# Altium footprint library Coffee Machine.PcbLib: 27 footprints (part 1 of 2)
Each footprint in its own frame and in the unit in brackets; x right, y up, seen from the top. Pads: shape width x height; smd on the part's side, far side on the other; paste and mask are expansions set on the pad; w line width, h text height; cw(c..) or ccw(c..) is an arc to the next point about the centre after c.
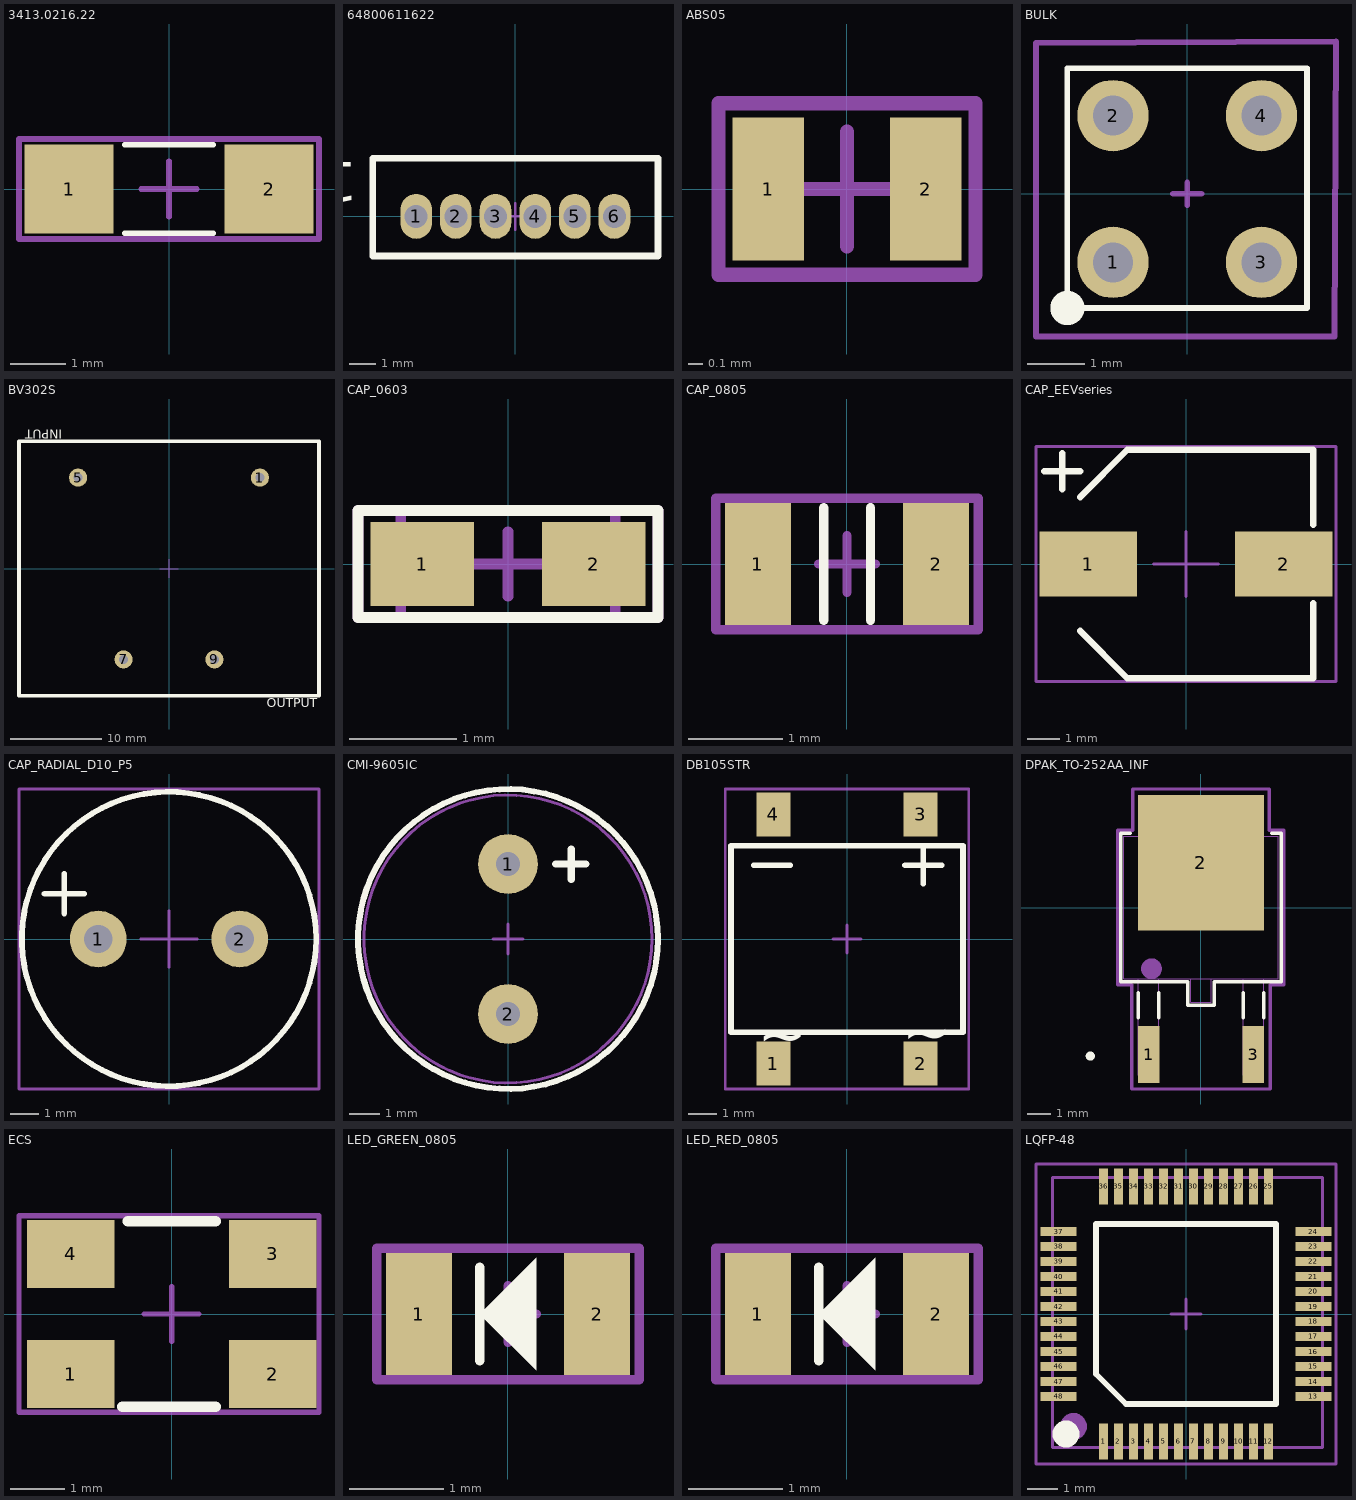
[diagram p0: the footprints below, top view; thin cyan lines are the x and y axes]

## 3413.0216.22 [mm]
pads (2):
  rect 1.6x1.6 smd mask+0.05: 1(-1.8,0) 2(1.8,0)
Top Overlay:
  lines w0.1: -0.8,-0.8 0.8,-0.8 ; -0.8,0.8 0.8,0.8
Top Component Center:
  lines w0.1: -0.5,0 0.5,0 ; 0,-0.5 0,0.5 ; -2.7,-0.9 2.7,-0.9 2.7,0.9 -1.3,0.9 -2.7,0.9 -2.7,-0.9
Top Designator:
  lines w0.1: -2.7,-0.9 2.7,-0.9 2.7,0.9 -1.3,0.9 -2.7,0.9 -2.7,-0.9
  text ".Designator" at -2,-0.467 h1
3D body "e_0100.3479_003.step": height 0.64, standoff 0, extent -1.612,-0.8 1.612,0.8

## 64800611622 [mm]
pads (6):
  oval 1.2x1.7 hole 0.87 mask+0.05: 1(-3.75,0) 2(-2.25,0) 3(-0.75,0) 4(0.75,0) 5(2.25,0) 6(3.75,0)
Top Overlay:
  lines w0.25: -5.4,-1.5 -5.4,2.2 5.4,2.2 5.4,-1.5 -5.4,-1.5
  text "1" at -5.954,2.046 h1.52
Top Component Center:
  lines w0.1: -0.5,0 0.5,0 ; 0,-0.5 0,0.5 ; -5.4,-1.5 5.4,-1.5 5.4,2.2 -5.4,2.2 -5.4,-1.5
Top Designator:
  lines w0.1: -5.4,-1.5 -5.4,2.2 5.4,2.2 5.4,-1.5 -5.4,-1.5
  text "'.Designator'" at -4.046,-0.238 h1.52
3D body "64800611622 (rev1).stp": height 4.75, standoff -2.45, extent -5.25,-1.4 5.25,2.1

## ABS05 [mm]
pads (2):
  rect 0.5x1 smd mask+0.05: 1(-0.55,0) 2(0.55,0)
Top Component Center:
  lines w0.1: -0.4,0 0.4,0 ; 0,-0.4 0,0.4 ; -0.9,-0.6 0.9,-0.6 0.9,0.6 -0.9,0.6 -0.9,-0.6
Top Designator:
  lines w0.1: -0.9,-0.6 0.9,-0.6 0.9,0.6 -0.9,0.6 -0.9,-0.6
  text "'.Designator'" at -1,-0.367 h0.7
3D body "ABS05.STEP": height 0.5, standoff 0, extent -0.8,-0.5 0.8,0.5

## BULK [mm]
pads (4):
  round 1.25 hole 0.7: 1(-1.3,-1.2) 2(-1.3,1.37) 3(1.3,-1.2) 4(1.3,1.37)
Top Overlay:
  circle w0.5: c-2.1,-2 r0.05
  lines w0.1: -2.1,-2 -2.1,2.2 2.1,2.2 2.1,-2 -2.1,-2
Top Component Center:
  lines w0.1: -0.25,0 0.25,0 ; 0,-0.2 0,0.2 ; -2.65,-2.5 2.581,-2.5 2.607,2.669 -2.65,2.643 -2.65,-2.5
Top Designator:
  lines w0.1: -2.65,-2.5 2.581,-2.5 2.607,2.669 -2.65,2.643 -2.65,-2.5
  text ".Designator" at -1.95,-0.55 h0.6
3D body "PH2-04-UA.STEP": height 8.45, standoff -3.1, extent -2.57,-2.43 2.51,2.57

## BV302S [mm]
pads (4):
  round 2 hole 1 mask+0.05: 1(10,10) 5(-10,10) 7(-5,-10) 9(5,-10)
Top Overlay:
  lines w0.4: -16.5,-14 -16.5,14 16.5,14 16.5,-14 -16.5,-14
  text "OUTPUT" at 10.754,-15.246 h1
  text "INPUT" at -11.754,15.246 h1
Top Component Center:
  lines w0.1: -1,0 1,0 ; 0,-1 0,1 ; -16.5,-14 16.5,-14 16.5,14 -16.5,14 -16.5,-14
Top Designator:
  lines w0.1: -16.5,-14 -16.5,14 16.5,14 16.5,-14 -16.5,-14
  text "'.Designator'" at -7.246,-0.238 h1.52
3D body "User Library-Hahn BV EI 302 2902.step": height 21.8, standoff -4.5, extent -16.25,-13.75 16.25,13.75

## CAP_0603 [mil]
pads (2):
  rect 38x31 smd mask+1.97: 1(-31.5,0) 2(31.5,0)
Top Overlay:
  lines w3.94: -55.12,-19.68 -55.12,19.68 55.12,19.68 55.12,-19.68 -55.12,-19.68
Top 3D Body:
  lines w3.94: -39.37,-19.68 39.37,-19.68 39.37,19.68 -39.37,19.68 -39.37,-19.68
Top Component Center:
  lines w3.94: -11.81,0 11.81,0 ; 0,-11.81 0,11.81 ; -55.12,-19.68 -55.12,19.68 55.12,19.68 55.12,-19.68 -55.12,-19.68
Top Designator:
  lines w3.94: -55.12,-19.68 -55.12,19.68 55.12,19.68 55.12,-19.68 -55.12,-19.68
  text ".Designator" at -39.37,-9.19 h19.68
3D body "CAPC0603.STEP": height 31.5, standoff 0, extent -41.35,-22.21 41.36,18.29

## CAP_0805 [mm]
pads (2):
  rect 0.7x1.3 smd mask+0.05: 1(-0.95,0) 2(0.95,0)
Top Overlay:
  lines w0.1: -0.25,-0.6 -0.25,0.6 ; 0.25,-0.6 0.25,0.6
Top Component Center:
  lines w0.1: -0.3,0 0.3,0 ; 0,-0.3 0,0.3 ; -1.4,-0.7 -1.4,0.7 1.4,0.7 1.4,-0.7 -1.4,-0.7
Top Designator:
  lines w0.1: -1.4,-0.7 -1.4,0.7 1.4,0.7 1.4,-0.7 -1.4,-0.7
  text "'.Designator'" at -1.25,-0.317 h0.7
3D body "CAPC0805.STEP": height 0.9, standoff 0, extent -1.301,-0.678 1.301,0.678

## CAP_EEVseries [mm]
pads (2):
  rect 3x2 smd mask+0.05: 1(-3,0) 2(3,0)
Top Overlay:
  lines w0.2: -4.35,2.85 -3.25,2.85 ; -3.8,2.3 -3.8,3.4 ; -3.25,-2.05 -1.8,-3.5 -1.5,-3.5 3.9,-3.5 3.9,-1.2 ; -3.25,2.05 -1.8,3.5 -1.5,3.5 3.9,3.5 3.9,1.2
Top Component Center:
  lines w0.1: -1,0 1,0 ; 0,-1 0,1 ; -4.6,-3.6 4.6,-3.6 4.6,3.6 -4.6,3.6 -4.6,-3.6
Top Designator:
  lines w0.1: -4.6,-3.6 4.6,-3.6 4.6,3.6 -4.6,3.6 -4.6,-3.6
  text "'.Designator'" at -2.846,-0.638 h1.52
3D body "EEV686M035A9HAA (1).step": height 8.01, standoff 0, extent -3.8,-3.4 3.8,3.4

## CAP_RADIAL_D10_P5 [mm]
pads (2):
  round 2 hole 1 mask+0.05: 1(-2.5,0) 2(2.5,0)
Top Overlay:
  circle w0.2: c0,0 r5.2
  lines w0.2: -4.4,1.6 -3,1.6 ; -3.7,0.9 -3.7,2.3
Top Component Center:
  lines w0.1: -1,0 1,0 ; 0,-1 0,1 ; -5.3,-5.3 -5.3,5.3 5.3,5.3 5.3,-5.3 -5.3,-5.3
Top Designator:
  lines w0.1: -5.3,-5.3 5.3,-5.3 5.3,5.3 -5.3,5.3 -5.3,-5.3
  text "'.Designator'" at -3.446,-0.938 h1.52
3D body "ESH477M050AH4AA (2).step": height 22.2, standoff -19.8, extent -5.25,-5.25 5.25,5.25

## CMI-9605IC [mm]
pads (2):
  round 2 hole 0.8 mask+0.05: 1(0,2.5) 2(0,-2.5)
Top Overlay:
  circle w0.2: c0,0 r5
  lines w0.25: 1.6,2.5 2.6,2.5 ; 2.1,2 2.1,3
Top Component Center:
  circle w0.1: c0,0 r4.8
  lines w0.1: -0.5,0 0.5,0 ; 0,-0.5 0,0.5
Top Designator:
  circle w0.1: c0,0 r4.8
  text ".Designator" at -2.246,-0.438 h1.52
3D body: height 5.1, standoff 0.1, extent -4.8,-4.797 4.8,4.797
3D body: height 0.15, standoff -5.35, extent -0.297,2.201 0.3,2.8
3D body: height 1.65, standoff -3.85, extent -0.3,-2.8 0.297,-2.201
3D body: height 5.2, standoff 5.15, extent -4.3,-4.297 4.3,4.297
3D body: height 5.2, standoff 5.15, extent -2,1.8 2,5.8

## DB105STR [mm]
pads (4):
  rect 1.2x1.55 smd mask+0.05: 1(-2.605,-4.4) 2(2.605,-4.4) 3(2.605,4.4) 4(-2.605,4.4)
Top Overlay:
  lines w0.2: -3.3,2.6 -2,2.6 ; 2.05,2.6 3.35,2.6 ; 2.7,1.95 2.7,3.25 ; -4.1,-3.3 -4.1,3.3 4.1,3.3 4.1,-3.3 -4.1,-3.3
  text "~" at 1.954,-4.016 h1.52
  text "~" at -3.146,-4.116 h1.52
Top Component Center:
  lines w0.1: -0.5,0 0.5,0 ; 0,-0.5 0,0.5 ; -4.3,-5.3 -4.3,5.3 4.3,5.3 4.3,-5.3 -4.3,-5.3
Top Designator:
  lines w0.1: -4.3,-5.3 -4.3,5.3 4.3,5.3 4.3,-5.3 -4.3,-5.3
  text ".Designator" at -3,-0.067 h1
3D body "User Library-DB107S  DB-S (1).step": height 2.66, standoff 0, extent -4.16,-5.2 4.16,5.2

## DPAK_TO-252AA_INF [mil]
pads (3):
  rect 37x98 smd paste+0 mask+0: 1(-90,-252.5) 3(90,-252.5)
  rect 217x233 smd paste+0 mask+0: 2(0,77)
Top Overlay:
  circle w7.87: c-190,-255 r3.94
  lines w6: -121.6,127.5 -137.5,127.5 -137.5,-127.5 -22.5,-127.5 -22.5,-167.5 22.5,-167.5 22.5,-127.5 137.5,-127.5 137.5,127.5 121.6,127.5 ; -107.5,-189.5 -107.5,-146.5 ; -72.5,-189.5 -72.5,-146.5 ; 72.5,-189.5 72.5,-146.5 ; 107.5,-189.5 107.5,-146.5
Top 3D Body:
  circle w19.68: c-85,-105 r7.87
Mechanical 13:
  lines w1: -132.5,-122.5 132.5,-122.5 132.5,122.5 -132.5,122.5 -132.5,-122.5 ; -107.5,-287.5 -107.5,-122.5 -72.5,-122.5 -72.5,-287.5 -107.5,-287.5 ; -17.5,-162.5 -17.5,-122.5 17.5,-122.5 17.5,-162.5 -17.5,-162.5 ; 72.5,-287.5 72.5,-122.5 107.5,-122.5 107.5,-287.5 72.5,-287.5
Mechanical 15:
  lines w6: -142.5,-132.5 -142.5,132.5 -117.5,132.5 -117.5,203.5 117.5,203.5 117.5,132.5 142.5,132.5 142.5,-132.5 118.5,-132.5 118.5,-311.5 -118.5,-311.5 -118.5,-132.5 -142.5,-132.5
3D body "DPAK_TO-252AA_INF.step": height 94.09, standoff -2.01, extent -132.52,-287.52 132.52,172.52

## ECS [mm]
pads (4):
  rect 1.6x1.25 smd mask+0.05: 1(-1.85,-1.1) 2(1.85,-1.1) 3(1.85,1.1) 4(-1.85,1.1)
Top Overlay:
  lines w0.2: -0.9,-1.7 0.8,-1.7 ; -0.8,1.7 0.8,1.7
Top Component Center:
  lines w0.1: -0.5,0 0.5,0 ; 0,-0.5 0,0.5 ; -2.8,-1.8 2.7,-1.8 2.7,1.8 -2.8,1.8 -2.8,-1.8
Top Designator:
  lines w0.1: -2.8,-1.8 2.7,-1.8 2.7,1.8 -2.8,1.8 -2.8,-1.8
  text "'.Designator'" at -2.246,-0.638 h1.52
3D body "ECS-160-20-30B-TR.STEP": height 0.85, standoff 0, extent -2.5,-1.6 2.5,1.6

## LED_GREEN_0805 [mm]
pads (2):
  rect 0.7x1.3 smd mask+0.05: 1(-0.95,0) 2(0.95,0)
Top Overlay:
  region: -0.3,0 0.3,0.6 0.3,-0.6
  lines w0.1: -0.3,-0.5 -0.3,0.5
Top Component Center:
  lines w0.1: -0.3,0 0.3,0 ; 0,-0.3 0,0.3 ; -1.4,-0.7 1.4,-0.7 1.4,0.7 -1.4,0.7 -1.4,-0.7
Top Designator:
  lines w0.1: -1.4,-0.7 1.4,-0.7 1.4,0.7 -1.4,0.7 -1.4,-0.7
  text "'.Designator'" at -1.25,-0.317 h0.7
3D body "SMD_0805LED_GREEN.STEP": height 1.1, standoff 0, extent -1.01,-0.625 1.01,0.625

## LED_RED_0805 [mm]
pads (2):
  rect 0.7x1.3 smd mask+0.05: 1(-0.95,0) 2(0.95,0)
Top Overlay:
  region: -0.3,0 0.3,0.6 0.3,-0.6
  lines w0.1: -0.3,-0.5 -0.3,0.5
Top Component Center:
  lines w0.1: -0.3,0 0.3,0 ; 0,-0.3 0,0.3 ; -1.4,-0.7 -1.4,0.7 1.4,0.7 1.4,-0.7 -1.4,-0.7
Top Designator:
  lines w0.1: -1.4,-0.7 -1.4,0.7 1.4,0.7 1.4,-0.7 -1.4,-0.7
  text "'.Designator'" at -1.25,-0.317 h0.7
3D body "SMD_0805LED_RED.STEP": height 1.1, standoff 0, extent -1.01,-0.625 1.01,0.625

## LQFP-48 [mm] "7mm x 7mm"
pads (48):
  rect 0.3x1.2 smd mask+0.05: 1(-2.75,-4.25) 2(-2.25,-4.25) 3(-1.75,-4.25) 4(-1.25,-4.25) 5(-0.75,-4.25) 6(-0.25,-4.25) 7(0.25,-4.25) 8(0.75,-4.25) 9(1.25,-4.25) 10(1.75,-4.25) 11(2.25,-4.25) 12(2.75,-4.25) 25(2.75,4.25) 26(2.25,4.25) 27(1.75,4.25) 28(1.25,4.25) 29(0.75,4.25) 30(0.25,4.25) 31(-0.25,4.25) 32(-0.75,4.25) 33(-1.25,4.25) 34(-1.75,4.25) 35(-2.25,4.25) 36(-2.75,4.25)
  rect 1.2x0.3 smd mask+0.05: 13(4.25,-2.75) 14(4.25,-2.25) 15(4.25,-1.75) 16(4.25,-1.25) 17(4.25,-0.75) 18(4.25,-0.25) 19(4.25,0.25) 20(4.25,0.75) 21(4.25,1.25) 22(4.25,1.75) 23(4.25,2.25) 24(4.25,2.75) 37(-4.25,2.75) 38(-4.25,2.25) 39(-4.25,1.75) 40(-4.25,1.25) 41(-4.25,0.75) 42(-4.25,0.25) 43(-4.25,-0.25) 44(-4.25,-0.75) 45(-4.25,-1.25) 46(-4.25,-1.75) 47(-4.25,-2.25) 48(-4.25,-2.75)
Top Overlay:
  circle w0.5: c-4,-4 r0.2
  lines w0.2: -3,-2 -2,-3 3,-3 3,3 -3,3 -3,-2
Top 3D Body:
  circle w0.5: c-3.75,-3.75 r0.2
  lines w0.1: -4.454,-4.452 4.548,-4.452 4.548,4.551 -4.454,4.551 -4.454,-4.452
Top Component Center:
  lines w0.1: -0.5,0 0.5,0 ; 0,-0.5 0,0.5 ; -5,-5 -5,5 5,5 5,-5 -5,-5
Top Designator:
  lines w0.1: -5,-5 5,-5 5,5 -5,5 -5,-5
  text ".Designator" at -1.868,-0.258 h1.52
3D body "STM32-LQFP48.SLDPRT": height 1.5, standoff 0, extent -4.45,-4.45 4.55,4.55